# Altium footprint library chips.PcbLib: 10 footprints
Each footprint in its own frame and in the unit in brackets; x right, y up, seen from the top. Pads: shape width x height; smd on the part's side, far side on the other; paste and mask are expansions set on the pad; w line width, h text height; cw(c..) or ccw(c..) is an arc to the next point about the centre after c.
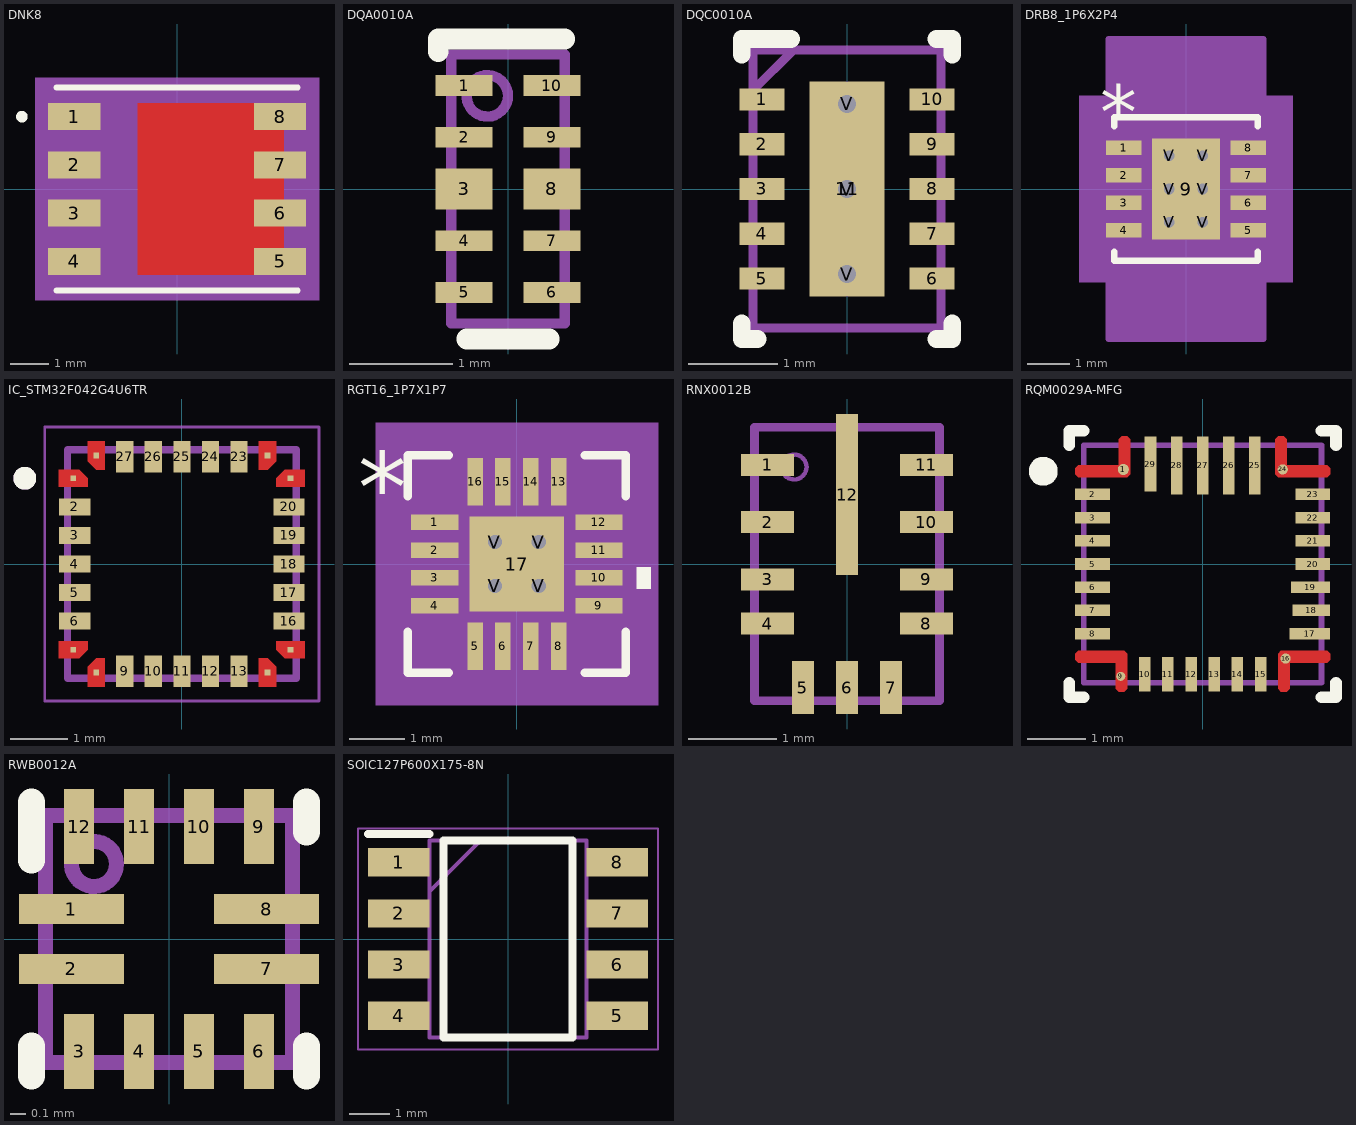
[diagram p0: the footprints below, top view; thin cyan lines are the x and y axes]

## DNK8 [mm]
pads (8):
  rect 1.372x0.71 smd paste-0.673: 1(-2.712,1.905) 2(-2.712,0.635) 3(-2.712,-0.635) 4(-2.712,-1.905) 5(2.712,-1.905) 6(2.712,-0.635) 7(2.712,0.635) 8(2.712,1.905)
Top Layer:
  region: -1.042,-2.26 -1.042,2.26 2.808,2.26 2.808,-2.26
Top Overlay:
  circle w0.152: c-4.091,1.905 r0.076
  lines w0.152: -3.177,-2.677 3.177,-2.677 ; -3.177,2.677 3.177,2.677
Top Paste:
  region: -1.581,2.16 -2.665,2.16 -2.665,0.853 -1.581,0.853
  region: -1.581,0.653 -2.665,0.653 -2.665,-0.653 -1.581,-0.653
  region: -1.581,-0.853 -2.665,-0.853 -2.665,-2.16 -1.581,-2.16
  region: -0.298,2.16 -1.381,2.16 -1.381,0.853 -0.298,0.853
  region: -0.298,0.653 -1.381,0.653 -1.381,-0.653 -0.298,-0.653
  region: -0.298,-0.853 -1.381,-0.853 -1.381,-2.16 -0.298,-2.16
  region: 0.985,2.16 -0.098,2.16 -0.098,0.853 0.985,0.853
  region: 0.985,0.653 -0.098,0.653 -0.098,-0.653 0.985,-0.653
  region: 0.985,-0.853 -0.098,-0.853 -0.098,-2.16 0.985,-2.16
  region: -2.127,2.159 -3.297,2.159 -3.297,1.651 -2.127,1.651
  region: -2.127,0.889 -3.297,0.889 -3.297,0.381 -2.127,0.381
  region: -2.127,-0.381 -3.297,-0.381 -3.297,-0.889 -2.127,-0.889
  region: -2.127,-1.651 -3.297,-1.651 -3.297,-2.159 -2.127,-2.159
  region: 3.297,-1.651 2.127,-1.651 2.127,-2.159 3.297,-2.159
  region: 3.297,-0.381 2.127,-0.381 2.127,-0.889 3.297,-0.889
  region: 3.297,0.889 2.127,0.889 2.127,0.381 3.297,0.381
  region: 3.297,2.159 2.127,2.159 2.127,1.651 3.297,1.651
  region: -1.581,2.16 -2.665,2.16 -2.665,0.853 -1.581,0.853
  region: -1.581,0.653 -2.665,0.653 -2.665,-0.653 -1.581,-0.653
  region: -1.581,-0.853 -2.665,-0.853 -2.665,-2.16 -1.581,-2.16
  region: -0.298,2.16 -1.381,2.16 -1.381,0.853 -0.298,0.853
  region: -0.298,0.653 -1.381,0.653 -1.381,-0.653 -0.298,-0.653
  region: -0.298,-0.853 -1.381,-0.853 -1.381,-2.16 -0.298,-2.16
  region: 0.985,2.16 -0.098,2.16 -0.098,0.853 0.985,0.853
  region: 0.985,0.653 -0.098,0.653 -0.098,-0.653 0.985,-0.653
  region: 0.985,-0.853 -0.098,-0.853 -0.098,-2.16 0.985,-2.16
  region: -1.581,2.16 -2.665,2.16 -2.665,0.853 -1.581,0.853
  region: -1.581,0.653 -2.665,0.653 -2.665,-0.653 -1.581,-0.653
  region: -1.581,-0.853 -2.665,-0.853 -2.665,-2.16 -1.581,-2.16
  region: -0.298,2.16 -1.381,2.16 -1.381,0.853 -0.298,0.853
  region: -0.298,0.653 -1.381,0.653 -1.381,-0.653 -0.298,-0.653
  region: -0.298,-0.853 -1.381,-0.853 -1.381,-2.16 -0.298,-2.16
  region: 0.985,2.16 -0.098,2.16 -0.098,0.853 0.985,0.853
  region: 0.985,0.653 -0.098,0.653 -0.098,-0.653 0.985,-0.653
  region: 0.985,-0.853 -0.098,-0.853 -0.098,-2.16 0.985,-2.16
Top Solder:
  region: -2.026,2.26 -3.398,2.26 -3.398,1.55 -2.026,1.55
  region: -2.026,0.99 -3.398,0.99 -3.398,0.28 -2.026,0.28
  region: -2.026,-0.28 -3.398,-0.28 -3.398,-0.99 -2.026,-0.99
  region: -2.026,-1.55 -3.398,-1.55 -3.398,-2.26 -2.026,-2.26
  region: 3.398,-1.55 2.026,-1.55 2.026,-2.26 3.398,-2.26
  region: 3.398,-0.28 2.026,-0.28 2.026,-0.99 3.398,-0.99
  region: 3.398,0.99 2.026,0.99 2.026,0.28 3.398,0.28
  region: 3.398,2.26 2.026,2.26 2.026,1.55 3.398,1.55
  region: -2.765,-2.26 -2.765,2.26 1.085,2.26 1.085,-2.26
Mechanical 5:
  region: 3.736,-2.931 -3.736,-2.931 -3.736,2.931 3.736,2.931
Mechanical 13:
  circle w0: c-1.983,1.905 r0.076
  lines w0: -0.305,2.55 ccw(c0,2.55) 0.305,2.55
  lines w0.025: -3.05,-2.55 3.05,-2.55 3.05,2.55 -3.05,2.55 -3.05,-2.55
Mechanical 15:
  region: -3.304,-2.591 -3.609,-2.591 -3.609,2.591 -3.304,2.591 -3.304,2.804 3.304,2.804 3.304,2.591 3.609,2.591 3.609,-2.591 3.304,-2.591 3.304,-2.804 -3.304,-2.804
  lines w0.152: -3.609,-2.591 -3.609,2.591 -3.304,2.591 -3.304,2.804 3.304,2.804 3.304,2.591 3.609,2.591 3.609,-2.591 3.304,-2.591 3.304,-2.804 -3.304,-2.804 -3.304,-2.591 -3.609,-2.591
3D body "DNK0008A.stp": height 1, standoff 0, extent -3,-2.5 3,2.5

## DQA0010A [mm]
pads (10):
  rect 0.55x0.2 smd paste+0 mask+0.051: 1(-0.425,1) 2(-0.425,0.5) 4(-0.425,-0.5) 5(-0.425,-1) 6(0.425,-1) 7(0.425,-0.5) 9(0.425,0.5) 10(0.425,1)
  rect 0.55x0.4 smd paste+0 mask+0.051: 3(-0.425,0) 8(0.425,0)
Top Overlay:
  lines w0.2: -0.675,1.33 -0.675,1.45 -0.55,1.45 0.55,1.45 ; -0.4,-1.45 0.4,-1.45
Mechanical 13:
  circle w0.1: c-0.2,0.9 r0.2
  lines w0.1: -0.55,-1.3 0.55,-1.3 0.55,1.3 -0.55,1.3 -0.55,-1.3
  text ".Designator" at -0.86,0.3 h1.27
3D body: height 0.25, standoff 0, extent 0,0 0.254,0.254
3D body "DQA0010A.stp": height 0.55, standoff 0, extent -0.5,-1.25 0.5,1.25

## DQC0010A [mm]
pads (14):
  rect 0.5x0.25 smd paste+0 mask+0.051: 1(-0.95,1) 2(-0.95,0.5) 3(-0.95,0) 4(-0.95,-0.5) 5(-0.95,-1) 6(0.95,-1) 7(0.95,-0.5) 8(0.95,0) 9(0.95,0.5) 10(0.95,1)
  rect 0.84x2.4 smd paste-0.42 mask+0.051: 11(0,0)
  round 0.5 hole 0.203 mask+0.051: V(0,-0.95) V(0,0) V(0,0.95)
Top Overlay:
  lines w0.2: -1.175,-1.5 -1.175,-1.675 -1,-1.675 ; -1.175,1.5 -1.175,1.675 -0.625,1.675 ; 1,-1.675 1.175,-1.675 1.175,-1.5 ; 1,1.675 1.175,1.675 1.175,1.5
Top Paste:
  region: -0.399,-1.141 -0.4,-1.132 -0.4,-0.148 -0.399,-0.139 -0.396,-0.13 -0.392,-0.121 -0.386,-0.114 -0.379,-0.108 -0.37,-0.104 -0.361,-0.101 -0.352,-0.1 0.352,-0.1 0.361,-0.101 0.37,-0.104 0.379,-0.108 0.386,-0.114 0.392,-0.121 0.396,-0.13 0.399,-0.139 0.4,-0.148 0.4,-1.132 0.399,-1.141 0.396,-1.15 0.392,-1.159 0.386,-1.166 0.379,-1.172 0.37,-1.176 0.361,-1.179 0.352,-1.18 -0.352,-1.18 -0.361,-1.179 -0.37,-1.176 -0.379,-1.172 -0.386,-1.166 -0.392,-1.159 -0.396,-1.15
  region: -0.399,0.139 -0.4,0.148 -0.4,1.132 -0.399,1.141 -0.396,1.15 -0.392,1.159 -0.386,1.166 -0.379,1.172 -0.37,1.176 -0.361,1.179 -0.352,1.18 0.352,1.18 0.361,1.179 0.37,1.176 0.379,1.172 0.386,1.166 0.392,1.159 0.396,1.15 0.399,1.141 0.4,1.132 0.4,0.148 0.399,0.139 0.396,0.13 0.392,0.121 0.386,0.114 0.379,0.108 0.37,0.104 0.361,0.101 0.352,0.1 -0.352,0.1 -0.361,0.101 -0.37,0.104 -0.379,0.108 -0.386,0.114 -0.392,0.121 -0.396,0.13
Mechanical 13:
  lines w0.1: -1.05,1.1 -0.6,1.55 ; -1.05,-1.55 -1.05,1.55 1.05,1.55 1.05,-1.55 -1.05,-1.55
  text ".Designator" at -1.035,1.2 h1.27
3D body "DQC0010A.stp": height 0.75, standoff 0, extent -1,-1.5 1,1.5

## DRB8_1P6X2P4 [mm]
pads (15):
  rect 0.85x0.35 smd: 1(-1.475,0.975) 2(-1.475,0.325) 3(-1.475,-0.325) 4(-1.475,-0.975) 5(1.475,-0.975) 6(1.475,-0.325) 7(1.475,0.325) 8(1.475,0.975)
  rect 1.6x2.4 smd paste-1.187 mask-1.181: 9(0,0)
  round 0.508 hole 0.254: V(-0.394,-0.787) V(-0.394,0) V(-0.394,0.787) V(0.394,-0.787) V(0.394,0) V(0.394,0.787)
Top Layer:
  region: 0,-1.2
  region: 0,1.2
Top Overlay:
  lines w0.152: -1.702,-1.483 -1.702,-1.702 1.702,-1.702 1.702,-1.483 ; -1.702,1.483 -1.702,1.702 1.702,1.702 1.702,1.483
  text "*" at -2.026,1.198 h1.27
Top Paste:
  drawing of 22 lines, arcs and shapes, not listed
Top Solder:
  region: 0.594,-1.264 0.594,1.264 0.864,1.264 0.864,-1.264
  region: 0.194,-1.264 0.194,1.264 -0.194,1.264 -0.194,-1.264
  region: -0.864,-1.264 -0.864,1.264 -0.594,1.264 -0.594,-1.264
  region: -0.864,-1.264 -0.864,-0.987 0.864,-0.987 0.864,-1.264
  region: -0.864,-0.587 -0.864,-0.2 0.864,-0.2 0.864,-0.587
  region: -0.864,0.2 -0.864,0.587 0.864,0.587 0.864,0.2
  region: -0.864,0.987 -0.864,1.264 0.864,1.264 0.864,0.987
  region: 0,-1.2
  region: 0,1.2
  region: 1.97,1.22 0.98,1.22 0.98,0.73 1.97,0.73
  region: 1.97,0.57 0.98,0.57 0.98,0.08 1.97,0.08
  region: 1.97,-0.08 0.98,-0.08 0.98,-0.57 1.97,-0.57
  region: 1.97,-0.73 0.98,-0.73 0.98,-1.22 1.97,-1.22
  region: -0.98,-0.73 -1.97,-0.73 -1.97,-1.22 -0.98,-1.22
  region: -0.98,-0.08 -1.97,-0.08 -1.97,-0.57 -0.98,-0.57
  region: -0.98,0.57 -1.97,0.57 -1.97,0.08 -0.98,0.08
  region: -0.98,1.22 -1.97,1.22 -1.97,0.73 -0.98,0.73
Mechanical 5:
  region: 2.535,-2.21 -2.535,-2.21 -2.535,2.21 2.535,2.21
Mechanical 13:
  lines w0: -0.305,1.575 ccw(c0,1.575) 0.305,1.575
  lines w0.025: -1.575,-1.575 -1.575,1.575 1.575,1.575 1.575,-1.575 -1.575,-1.575 ; -1.575,-1.16 -1.575,-0.79 -1.575,-1.16 ; -1.575,-0.51 -1.575,-0.14 -1.575,-0.51 ; -1.575,0.14 -1.575,0.51 -1.575,0.14 ; -1.575,0.79 -1.575,1.16 -1.575,0.79 ; 1.575,-1.16 1.575,-0.79 1.575,-1.16 ; 1.575,-0.51 1.575,-0.14 1.575,-0.51 ; 1.575,0.14 1.575,0.51 1.575,0.14 ; 1.575,0.79 1.575,1.16 1.575,0.79
  text "*" at -1.639,0.055 h1.27
Mechanical 15:
  region: -1.829,-1.404 -2.154,-1.404 -2.154,1.404 -1.829,1.404 -1.829,3.554 1.829,3.554 1.829,1.404 2.154,1.404 2.154,-1.404 1.829,-1.404 1.829,-3.554 -1.829,-3.554
  lines w0.152: -2.154,-1.404 -1.829,-1.404 -1.829,-3.554 1.829,-3.554 1.829,-1.404 2.154,-1.404 2.154,1.404 1.829,1.404 1.829,3.554 -1.829,3.554 -1.829,1.404 -2.154,1.404 -2.154,-1.404
3D body "DRB0008B.stp": height 0.77, standoff 0, extent -1.5,-1.5 1.5,1.5
3D body "DRB8_1P6X2P4.step": height 1.7, standoff 0.2, extent -1.575,-1.575 1.575,1.575

## IC_STM32F042G4U6TR [mm]
pads (28):
  rect 0.1x0.1 smd paste-1 mask+0: 1(-1.9,1.5) 7(-1.9,-1.5) 8(-1.5,-1.9) 14(1.5,-1.9) 15(1.9,-1.5) 21(1.9,1.5) 22(1.5,1.9) 28(-1.5,1.9)
  rect 0.55x0.3 smd: 2(-1.875,1) 3(-1.875,0.5) 4(-1.875,0) 5(-1.875,-0.5) 6(-1.875,-1) 16(1.875,-1) 17(1.875,-0.5) 18(1.875,0) 19(1.875,0.5) 20(1.875,1)
  rect 0.3x0.55 smd: 9(-1,-1.875) 10(-0.5,-1.875) 11(0,-1.875) 12(0.5,-1.875) 13(1,-1.875) 23(1,1.875) 24(0.5,1.875) 25(0,1.875) 26(-0.5,1.875) 27(-1,1.875)
Top Layer:
  region: -1.65,1.5 -1.65,1.35 -2.15,1.35 -2.15,1.65 -1.8,1.65
  region: -1.65,-1.5 -1.8,-1.65 -2.15,-1.65 -2.15,-1.35 -1.65,-1.35
  region: -1.35,-2.15 -1.65,-2.15 -1.65,-1.8 -1.5,-1.65 -1.35,-1.65
  region: 1.65,-1.8 1.65,-2.15 1.35,-2.15 1.35,-1.65 1.5,-1.65
  region: 2.15,-1.65 1.8,-1.65 1.65,-1.5 1.65,-1.35 2.15,-1.35
  region: 2.15,1.35 1.65,1.35 1.65,1.5 1.8,1.65 2.15,1.65
  region: 1.65,1.8 1.5,1.65 1.35,1.65 1.35,2.15 1.65,2.15
  region: -1.35,1.65 -1.5,1.65 -1.65,1.8 -1.65,2.15 -1.35,2.15
Top Overlay:
  circle w0.2: c-2.75,1.5 r0.1
Top Paste:
  region: -1.65,1.5 -1.65,1.35 -2.15,1.35 -2.15,1.65 -1.8,1.65
  region: -1.65,-1.5 -1.8,-1.65 -2.15,-1.65 -2.15,-1.35 -1.65,-1.35
  region: -1.35,-2.15 -1.65,-2.15 -1.65,-1.8 -1.5,-1.65 -1.35,-1.65
  region: 1.65,-1.8 1.65,-2.15 1.35,-2.15 1.35,-1.65 1.5,-1.65
  region: 2.15,-1.65 1.8,-1.65 1.65,-1.5 1.65,-1.35 2.15,-1.35
  region: 2.15,1.35 1.65,1.35 1.65,1.5 1.8,1.65 2.15,1.65
  region: 1.65,1.8 1.5,1.65 1.35,1.65 1.35,2.15 1.65,2.15
  region: -1.35,1.65 -1.5,1.65 -1.65,1.8 -1.65,2.15 -1.35,2.15
Top Solder:
  region: -1.55,1.5 -1.55,1.25 -2.25,1.25 -2.25,1.75 -1.8,1.75
  region: -1.55,-1.5 -1.8,-1.75 -2.25,-1.75 -2.25,-1.25 -1.55,-1.25
  region: -1.25,-2.25 -1.75,-2.25 -1.75,-1.8 -1.5,-1.55 -1.25,-1.55
  region: 1.75,-1.8 1.75,-2.25 1.25,-2.25 1.25,-1.55 1.5,-1.55
  region: 2.25,-1.75 1.8,-1.75 1.55,-1.5 1.55,-1.25 2.25,-1.25
  region: 2.25,1.25 1.55,1.25 1.55,1.5 1.8,1.75 2.25,1.75
  region: 1.75,1.8 1.5,1.55 1.25,1.55 1.25,2.25 1.75,2.25
  region: -1.25,1.55 -1.5,1.55 -1.75,1.8 -1.75,2.25 -1.25,2.25
Mechanical 13:
  circle w0.2: c-2.75,1.5 r0.1
  lines w0.127: -2,-2 2,-2 2,2 -2,2 -2,-2
Mechanical 15:
  lines w0.05: -2.4,-2.4 2.4,-2.4 2.4,2.4 -2.4,2.4 -2.4,-2.4
3D body "STM32F042G4U6TR.STEP": height 0.6, standoff 0, extent -2,-2 2,2

## RGT16_1P7X1P7 [mm]
pads (21):
  rect 0.85x0.28 smd paste+0 mask+0: 1(-1.475,0.75) 2(-1.475,0.25) 3(-1.475,-0.25) 4(-1.475,-0.75) 9(1.475,-0.75) 10(1.475,-0.25) 11(1.475,0.25) 12(1.475,0.75)
  rect 0.28x0.85 smd paste+0 mask+0: 5(-0.75,-1.475) 6(-0.25,-1.475) 7(0.25,-1.475) 8(0.75,-1.475) 13(0.75,1.475) 14(0.25,1.475) 15(-0.25,1.475) 16(-0.75,1.475)
  rect 1.7x1.7 smd paste-0.85 mask-0.838: 17(0,0)
  round 0.508 hole 0.254: V(-0.394,-0.394) V(-0.394,0.394) V(0.394,-0.394) V(0.394,0.394)
Top Overlay:
  region: 2.154,-0.059 2.408,-0.059 2.408,-0.44 2.154,-0.44
  lines w0.152: -1.956,-1.218 -1.956,-1.956 -1.218,-1.956 ; -1.956,1.218 -1.956,1.956 -1.218,1.956 ; 1.218,-1.956 1.956,-1.956 1.956,-1.218 ; 1.218,1.956 1.956,1.956 1.956,1.218
  text "*" at -2.852,0.746 h1.27
Top Paste:
  region: 0.775,-0.494 0.635,-0.494 0.494,-0.635 0.494,-0.775 0.775,-0.775
  region: 0.775,0.294 0.635,0.294 0.494,0.152 0.494,-0.152 0.635,-0.294 0.775,-0.294
  region: 0.775,0.775 0.494,0.775 0.494,0.635 0.635,0.494 0.775,0.494
  region: 0.152,-0.494 -0.152,-0.494 -0.294,-0.635 -0.294,-0.775 0.294,-0.775 0.294,-0.635
  region: 0.152,0.294 -0.152,0.294 -0.294,0.152 -0.294,-0.152 -0.152,-0.294 0.152,-0.294 0.294,-0.152 0.294,0.152
  region: 0.294,0.775 -0.294,0.775 -0.294,0.635 -0.152,0.494 0.152,0.494 0.294,0.635
  region: -0.635,-0.494 -0.775,-0.494 -0.775,-0.775 -0.494,-0.775 -0.494,-0.635
  region: -0.635,0.294 -0.775,0.294 -0.775,-0.294 -0.635,-0.294 -0.494,-0.152 -0.494,0.152
  region: -0.494,0.775 -0.775,0.775 -0.775,0.494 -0.635,0.494 -0.494,0.635
Top Solder:
  region: 0.594,-0.914 0.594,0.914 0.914,0.914 0.914,-0.914
  region: 0.194,-0.914 0.194,0.914 -0.194,0.914 -0.194,-0.914
  region: -0.914,-0.914 -0.914,0.914 -0.594,0.914 -0.594,-0.914
  region: -0.914,-0.914 -0.914,-0.594 0.914,-0.594 0.914,-0.914
  region: -0.914,-0.194 -0.914,0.194 0.914,0.194 0.914,-0.194
  region: -0.914,0.594 -0.914,0.914 0.914,0.914 0.914,0.594
Mechanical 5:
  region: 2.535,-2.535 -2.535,-2.535 -2.535,2.535 2.535,2.535
Mechanical 13:
  lines w0.025: -1.575,0.305 -0.305,1.575 ; -1.575,-1.575 -1.575,1.575 1.575,1.575 1.575,-1.575 -1.575,-1.575
  text "*" at -1.114,0.365 h1.27
Mechanical 15:
  region: -1.144,-1.829 -1.829,-1.829 -1.829,-1.144 -2.154,-1.144 -2.154,1.144 -1.829,1.144 -1.829,1.829 -1.144,1.829 -1.144,2.154 1.144,2.154 1.144,1.829 1.829,1.829 1.829,1.144 2.154,1.144 2.154,-1.144 1.829,-1.144 1.829,-1.829 1.144,-1.829 1.144,-2.154 -1.144,-2.154
  lines w0.152: -2.154,-1.144 -2.154,1.144 -1.829,1.144 -1.829,1.829 -1.144,1.829 -1.144,2.154 1.144,2.154 1.144,1.829 1.829,1.829 1.829,1.144 2.154,1.144 2.154,-1.144 1.829,-1.144 1.829,-1.829 1.144,-1.829 1.144,-2.154 -1.144,-2.154 -1.144,-1.829 -1.829,-1.829 -1.829,-1.144 -2.154,-1.144
3D body "RGT16_1P7X1P7.step": height 1, standoff 0, extent -1.626,-1.626 1.626,1.626

## RNX0012B [mm]
pads (12):
  rect 0.6x0.25 smd paste+0 mask+0.051: 1(-0.9,1.125) 2(-0.9,0.475) 3(-0.9,-0.175) 4(-0.9,-0.675) 8(0.9,-0.675) 9(0.9,-0.175) 10(0.9,0.475) 11(0.9,1.125)
  rect 0.25x0.6 smd paste+0 mask+0.051: 5(-0.5,-1.4) 6(0,-1.4) 7(0.5,-1.4)
  rect 0.25x1.825 smd paste-0.9 mask+0.051: 12(0,0.788)
Top Paste:
  region: -0.124,-0.086 -0.125,-0.076 -0.125,0.636 -0.124,0.646 -0.121,0.655 -0.117,0.664 -0.11,0.671 -0.103,0.678 -0.094,0.682 -0.085,0.685 -0.075,0.686 0.075,0.686 0.085,0.685 0.094,0.682 0.103,0.678 0.11,0.671 0.117,0.664 0.121,0.655 0.124,0.646 0.125,0.636 0.125,-0.076 0.124,-0.086 0.121,-0.095 0.117,-0.104 0.11,-0.111 0.103,-0.118 0.094,-0.122 0.085,-0.125 0.075,-0.126 -0.075,-0.126 -0.085,-0.125 -0.094,-0.122 -0.103,-0.118 -0.11,-0.111 -0.117,-0.104 -0.121,-0.095
  region: -0.124,0.929 -0.125,0.939 -0.125,1.651 -0.124,1.661 -0.121,1.67 -0.117,1.679 -0.11,1.686 -0.103,1.693 -0.094,1.697 -0.085,1.7 -0.075,1.701 0.075,1.701 0.085,1.7 0.094,1.697 0.103,1.693 0.11,1.686 0.117,1.679 0.121,1.67 0.124,1.661 0.125,1.651 0.125,0.939 0.124,0.929 0.121,0.92 0.117,0.911 0.11,0.904 0.103,0.897 0.094,0.893 0.085,0.89 0.075,0.889 -0.075,0.889 -0.085,0.89 -0.094,0.893 -0.103,0.897 -0.11,0.904 -0.117,0.911 -0.121,0.92
Mechanical 13:
  circle w0.05: c-0.6,1.1 r0.141
  lines w0.1: -1.05,-1.55 1.05,-1.55 1.05,1.55 -1.05,1.55 -1.05,-1.55
  text ".Designator" at -0.585,1.15 h1.27
3D body "RNX0012B.stp": height 1, standoff 0, extent -1,-1.5 1,1.5

## RQM0029A-MFG [mm]
pads (29):
  round 0.192 smd paste+0 mask+0: 1(-1.369,1.631)
  rect 0.6x0.2 smd paste+0 mask+0: 2(-1.9,1.2) 3(-1.9,0.8) 4(-1.9,0.4) 5(-1.9,0) 6(-1.9,-0.4) 7(-1.9,-0.8) 8(-1.9,-1.2) 20(1.9,0) 21(1.9,0.4) 22(1.9,0.8) 23(1.9,1.2)
  round 0.158 smd paste+0 mask+0: 9(-1.412,-1.937)
  rect 0.2x0.6 smd paste+0 mask+0: 10(-1,-1.9) 11(-0.6,-1.9) 12(-0.2,-1.9) 13(0.2,-1.9) 14(0.6,-1.9) 15(1,-1.9)
  round 0.175 smd paste+0 mask+0: 16(1.431,-1.631) 24(1.381,1.631)
  rect 0.7x0.2 smd paste+0 mask+0: 17(1.85,-1.2)
  rect 0.65x0.2 smd paste+0 mask+0: 18(1.875,-0.8)
  rect 0.68x0.2 smd paste+0 mask+0: 19(1.86,-0.4)
  rect 0.2x1 smd paste+0 mask+0: 25(0.9,1.7) 26(0.45,1.7) 27(0,1.7) 28(-0.45,1.7)
  rect 0.2x0.95 smd paste+0 mask+0: 29(-0.9,1.725)
Top Layer:
  region: 2.2,1.55 2.2,1.65 2.15,1.7 1.45,1.7 1.45,2.15 1.4,2.2 1.3,2.2 1.25,2.15 1.25,1.55 1.3,1.5 2.15,1.5
  region: 2.2,-1.55 2.2,-1.65 2.15,-1.7 1.5,-1.7 1.5,-2.15 1.45,-2.2 1.35,-2.2 1.3,-2.15 1.3,-1.55 1.35,-1.5 2.15,-1.5
  region: -2.2,-1.55 -2.2,-1.65 -2.15,-1.7 -1.5,-1.7 -1.5,-2.15 -1.45,-2.2 -1.35,-2.2 -1.3,-2.15 -1.3,-1.55 -1.35,-1.5 -2.15,-1.5
  region: -2.2,1.55 -2.2,1.65 -2.15,1.7 -1.45,1.7 -1.45,2.15 -1.4,2.2 -1.3,2.2 -1.25,2.15 -1.25,1.55 -1.3,1.5 -2.15,1.5
Top Overlay:
  circle w0.25: c-2.75,1.6 r0.125
  lines w0.2: -2.3,-2.05 -2.3,-2.3 -2.05,-2.3 ; -2.3,2.05 -2.3,2.3 -2.05,2.3 ; 2.05,-2.3 2.3,-2.3 2.3,-2.05 ; 2.05,2.3 2.3,2.3 2.3,2.05
Top Paste:
  region: 2.15,1.7 2.2,1.65 2.2,1.55 2.15,1.5 1.3,1.5 1.25,1.55 1.25,2.15 1.3,2.2 1.4,2.2 1.45,2.15 1.45,1.7
  region: 2.2,-1.55 2.2,-1.65 2.15,-1.7 1.5,-1.7 1.5,-2.15 1.45,-2.2 1.35,-2.2 1.3,-2.15 1.3,-1.55 1.35,-1.5 2.15,-1.5
  region: -2.15,-1.7 -2.2,-1.65 -2.2,-1.55 -2.15,-1.5 -1.35,-1.5 -1.3,-1.55 -1.3,-2.15 -1.35,-2.2 -1.45,-2.2 -1.5,-2.15 -1.5,-1.7
  region: -2.2,1.55 -2.2,1.65 -2.15,1.7 -1.45,1.7 -1.45,2.15 -1.4,2.2 -1.3,2.2 -1.25,2.15 -1.25,1.55 -1.3,1.5 -2.15,1.5
Top Solder:
  region: 2.15,1.7 2.2,1.65 2.2,1.55 2.15,1.5 1.3,1.5 1.25,1.55 1.25,2.15 1.3,2.2 1.4,2.2 1.45,2.15 1.45,1.7
  region: 2.2,-1.55 2.2,-1.65 2.15,-1.7 1.5,-1.7 1.5,-2.15 1.45,-2.2 1.35,-2.2 1.3,-2.15 1.3,-1.55 1.35,-1.5 2.15,-1.5
  region: -2.15,-1.7 -2.2,-1.65 -2.2,-1.55 -2.15,-1.5 -1.35,-1.5 -1.3,-1.55 -1.3,-2.15 -1.35,-2.2 -1.45,-2.2 -1.5,-2.15 -1.5,-1.7
  region: -2.2,1.55 -2.2,1.65 -2.15,1.7 -1.45,1.7 -1.45,2.15 -1.4,2.2 -1.3,2.2 -1.25,2.15 -1.25,1.55 -1.3,1.5 -2.15,1.5
Mechanical 13:
  lines w0.1: -2.05,-2.05 -2.05,2.05 2.05,2.05 2.05,-2.05 -2.05,-2.05
  text ".Designator" at 0,-0.635 h1.27
3D body "RQM0029A.stp": height 1, standoff 0, extent -2,-2 2,2

## RWB0012A [mm]
pads (12):
  rect 0.7x0.2 smd paste-0.337 mask+0.051: 1(-0.65,0.2) 2(-0.65,-0.2) 7(0.65,-0.2) 8(0.65,0.2)
  rect 0.2x0.5 smd paste+0 mask+0.051: 3(-0.6,-0.75) 4(-0.2,-0.75) 5(0.2,-0.75) 6(0.6,-0.75) 9(0.6,0.75) 10(0.2,0.75) 11(-0.2,0.75) 12(-0.6,0.75)
Top Overlay:
  lines w0.178: -0.916,-0.914 -0.916,-0.714 ; -0.916,0.525 -0.916,0.914 ; 0.916,-0.914 0.916,-0.714 ; 0.916,0.714 0.916,0.914
Top Paste:
  region: 0.984,0.254 0.985,0.243 0.985,0.157 0.984,0.146 0.981,0.135 0.975,0.125 0.968,0.117 0.96,0.11 0.95,0.104 0.939,0.101 0.928,0.1 0.372,0.1 0.361,0.101 0.35,0.104 0.34,0.11 0.332,0.117 0.325,0.125 0.319,0.135 0.316,0.146 0.315,0.157 0.315,0.243 0.316,0.254 0.319,0.265 0.325,0.275 0.332,0.283 0.34,0.29 0.35,0.296 0.361,0.299 0.372,0.3 0.928,0.3 0.939,0.299 0.95,0.296 0.96,0.29 0.968,0.283 0.975,0.275 0.981,0.265
  region: 0.984,-0.146 0.985,-0.157 0.985,-0.243 0.984,-0.254 0.981,-0.265 0.975,-0.275 0.968,-0.283 0.96,-0.29 0.95,-0.296 0.939,-0.299 0.928,-0.3 0.372,-0.3 0.361,-0.299 0.35,-0.296 0.34,-0.29 0.332,-0.283 0.325,-0.275 0.319,-0.265 0.316,-0.254 0.315,-0.243 0.315,-0.157 0.316,-0.146 0.319,-0.135 0.325,-0.125 0.332,-0.117 0.34,-0.11 0.35,-0.104 0.361,-0.101 0.372,-0.1 0.928,-0.1 0.939,-0.101 0.95,-0.104 0.96,-0.11 0.968,-0.117 0.975,-0.125 0.981,-0.135
  region: -0.984,-0.254 -0.985,-0.243 -0.985,-0.157 -0.984,-0.146 -0.981,-0.135 -0.975,-0.125 -0.968,-0.117 -0.96,-0.11 -0.95,-0.104 -0.939,-0.101 -0.928,-0.1 -0.372,-0.1 -0.361,-0.101 -0.35,-0.104 -0.34,-0.11 -0.332,-0.117 -0.325,-0.125 -0.319,-0.135 -0.316,-0.146 -0.315,-0.157 -0.315,-0.243 -0.316,-0.254 -0.319,-0.265 -0.325,-0.275 -0.332,-0.283 -0.34,-0.29 -0.35,-0.296 -0.361,-0.299 -0.372,-0.3 -0.928,-0.3 -0.939,-0.299 -0.95,-0.296 -0.96,-0.29 -0.968,-0.283 -0.975,-0.275 -0.981,-0.265
  region: -0.984,0.146 -0.985,0.157 -0.985,0.243 -0.984,0.254 -0.981,0.265 -0.975,0.275 -0.968,0.283 -0.96,0.29 -0.95,0.296 -0.939,0.299 -0.928,0.3 -0.372,0.3 -0.361,0.299 -0.35,0.296 -0.34,0.29 -0.332,0.283 -0.325,0.275 -0.319,0.265 -0.316,0.254 -0.315,0.243 -0.315,0.157 -0.316,0.146 -0.319,0.135 -0.325,0.125 -0.332,0.117 -0.34,0.11 -0.35,0.104 -0.361,0.101 -0.372,0.1 -0.928,0.1 -0.939,0.101 -0.95,0.104 -0.96,0.11 -0.968,0.117 -0.975,0.125 -0.981,0.135
Mechanical 13:
  circle w0.1: c-0.5,0.5 r0.15
  lines w0.1: -0.825,-0.825 -0.825,0.825 0.825,0.825 0.825,-0.825 -0.825,-0.825
  text ".Designator" at -0.4,-0.735 h1.27
3D body "RWB0012A.stp": height 0.4, standoff 0, extent -0.8,-0.8 0.8,0.8

## SOIC127P600X175-8N [mm]
pads (8):
  rect 1.525x0.7 smd: 1(-2.712,1.905) 2(-2.712,0.635) 3(-2.712,-0.635) 4(-2.712,-1.905) 5(2.712,-1.905) 6(2.712,-0.635) 7(2.712,0.635) 8(2.712,1.905)
Top Overlay:
  lines w0.2: -3.475,2.605 -1.95,2.605 ; -1.6,-2.45 -1.6,2.45 1.6,2.45 1.6,-2.45 -1.6,-2.45
Mechanical 13:
  lines w0.1: -1.95,1.18 -0.68,2.45 ; -1.95,-2.45 -1.95,2.45 1.95,2.45 1.95,-2.45 -1.95,-2.45
Mechanical 15:
  lines w0.05: -3.725,-2.75 -3.725,2.75 3.725,2.75 3.725,-2.75 -3.725,-2.75
3D body "AUIR3200STR.stp": height 0, standoff 0, extent 0,0 0,0
3D body "Infineon-STP_PG-DSO-8-907-P-v01_00-EN.stp": height 1.56, standoff 0, extent -3,-2.45 3,2.45